# Altium schematic symbol library OP_AMP.SchLib: 2 symbols
Pins are listed as number, name and electrical type; pins without a type are passive.

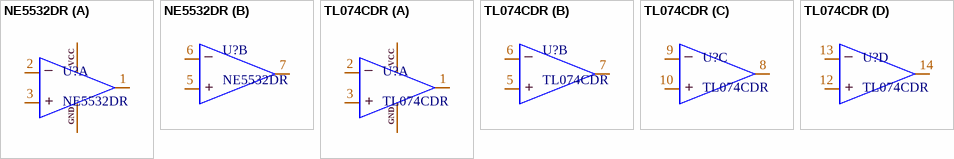
[diagram p0: symbols NE5532DR to TL074CDR]

## NE5532DR
designator U?
2 1uA 9V/us 10MHz 500uV SOIC-8 Operational Amplifier ROHS; Manufacturer: TI; Key Attributes: Dual Low-Noise Operational Amplifiers; Common Mode Rejection Ratio(CMRR): 100dB; Dual Supply: -15V~15V; Noise density(eN): 5nV/√Hz@1kHz; Mfr. Part #: NE5532DR; Package: SOIC-8; LCSC Part #: C7426; Slew Rate: 9V/us; Link: https://www.lcsc.com/product-detail/C7426.html?s_z=n_ne5532
footprint NE5532DR
part A pins: 1 OUT, 2 -, 3 +, 4 GND, 8 VCC
part B pins: 5 +, 6 -, 7 OUT
part A text: _
part B text: _

## TL074CDR
designator U?
3mV 65pA 3MHz 13V/us 4 SOIC-14 FET Input Amplifiers ROHS; Manufacturer: TI; Key Attributes: LOW-NOISE JFET-INPUT OPERATIONAL AMPLIFIERS; Mfr. Part #: TL074CDR; Package: SOIC-14; LCSC Part #: C12594; Link: https://www.lcsc.com/product-detail/C12594.html?s_z=n_tl074
footprint TL074CDR
part A pins: 1 OUT, 2 -, 3 +, 4 VCC, 11 GND
part B pins: 5 +, 6 -, 7 OUT
part C pins: 8 OUT, 9 -, 10 +
part D pins: 12 +, 13 -, 14 OUT
part A text: _
part B text: _
part C text: _
part D text: _